# Altium footprint library SparkFun-DiscreteSemi.PCBLIB: 47 footprints (part 1 of 3)
Each footprint in its own frame and in the unit in brackets; x right, y up, seen from the top. Pads: shape width x height; smd on the part's side, far side on the other; paste and mask are expansions set on the pad; w line width, h text height; cw(c..) or ccw(c..) is an arc to the next point about the centre after c.
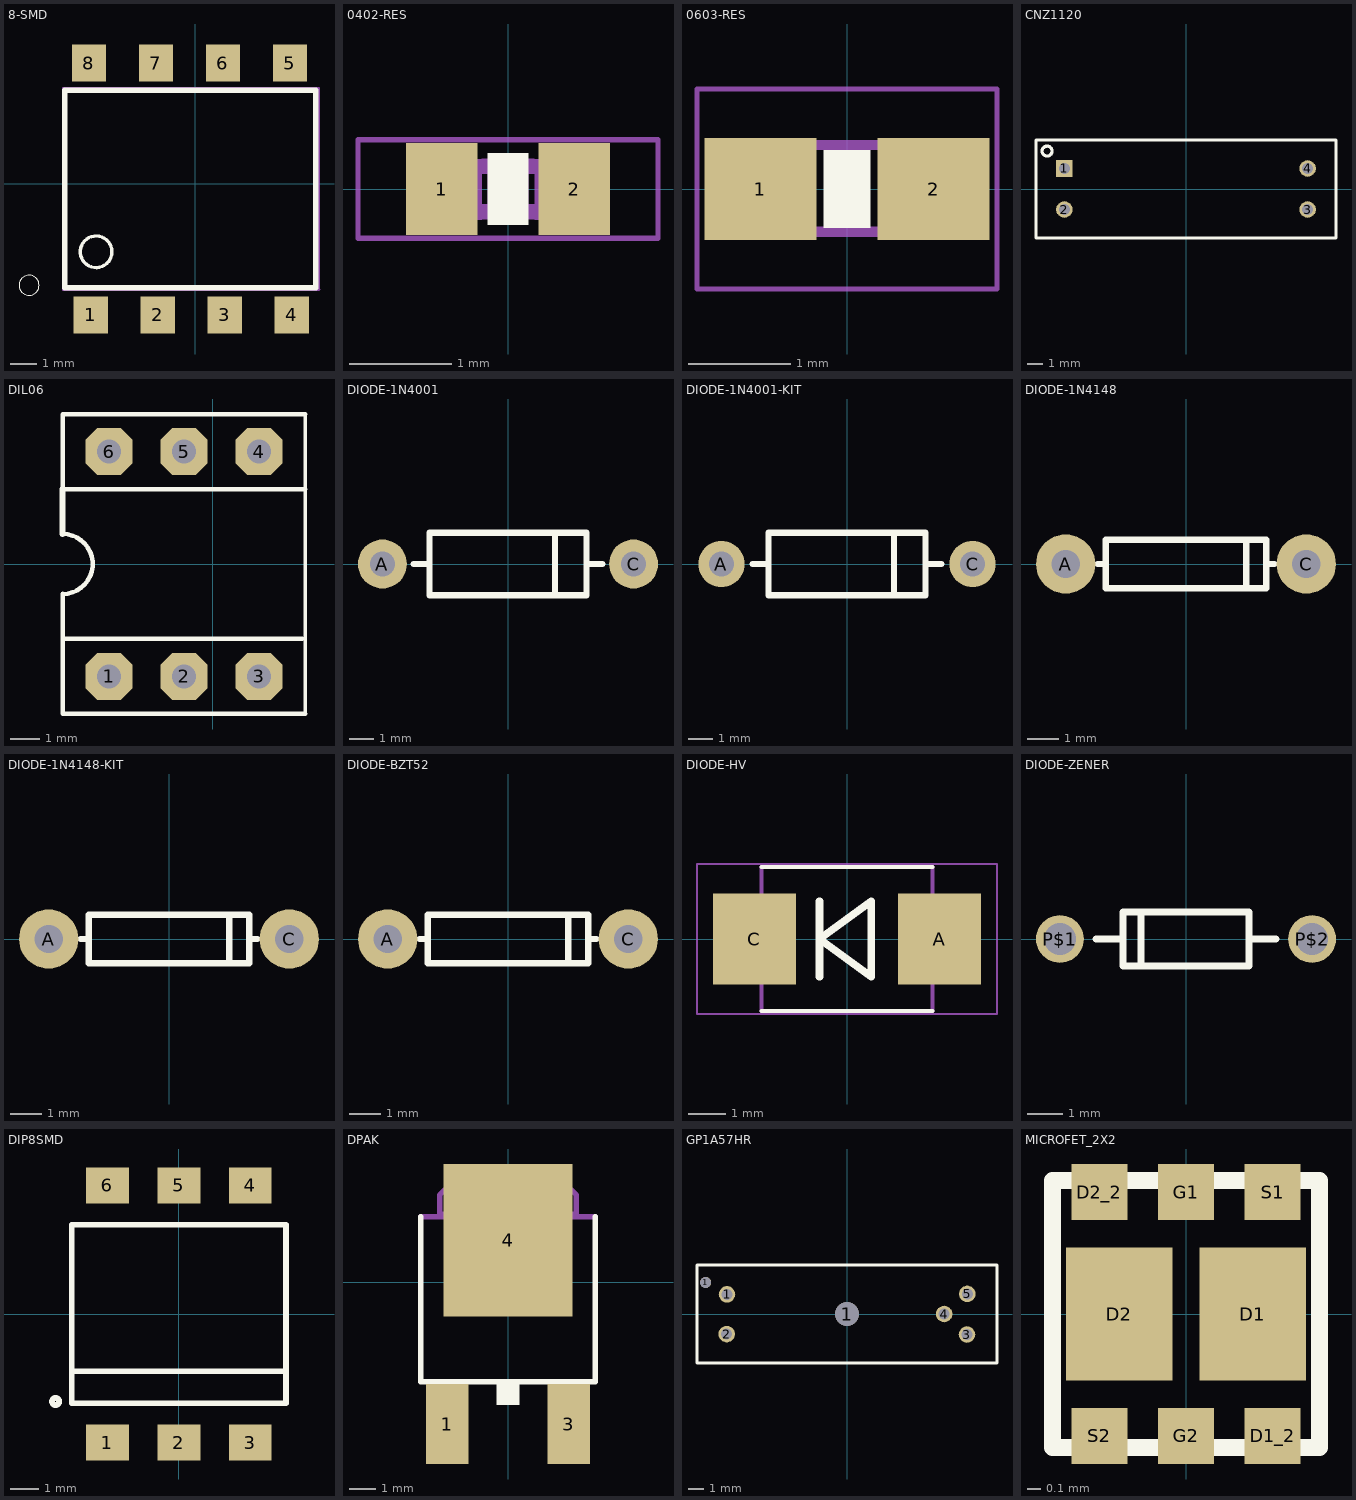
[diagram p0: the footprints below, top view; thin cyan lines are the x and y axes]

## 8-SMD [mil]
pads (8):
  rect 51.18x55.12 smd: 1(-155.91,-195.28) 2(-55.91,-195.28) 3(44.09,-195.28) 4(144.09,-195.28) 5(141.34,180.32) 6(41.34,180.32) 7(-58.66,180.32) 8(-158.66,180.32)
Top Overlay:
  circle w5: c-148.03,-101.18 r23.59
  circle w0: c-248.03,-151.18 r15
  lines w8: -195,-155 180,-155 180,140 -195,140 -195,-155
Mechanical 16:
  lines w3.94: 184.25,-156.69 184.25,142.52 -196.85,142.52 -196.85,-157.48 184.65,-157.48

## 0402-RES [mm]
pads (2):
  rect 0.7x0.9 smd: 1(-0.65,0) 2(0.65,0)
Top Overlay:
  rectangle: -0.203,-0.356 0.203,0.356
Mechanical 6:
  rectangle: -0.2,-0.3 0.2,0.3
Mechanical 16:
  rectangle: -0.554,-0.305 -0.254,0.295
  rectangle: 0.259,-0.305 0.559,0.295
  lines w0.152: -0.245,-0.224 0.245,-0.224 ; -0.245,0.224 0.245,0.224
Mechanical 27:
  lines w0.051: -1.473,-0.483 1.473,-0.483 1.473,0.483 -1.473,0.483 -1.473,-0.483

## 0603-RES [mm]
pads (2):
  rect 1.1x1 smd: 1(-0.85,0) 2(0.85,0)
Top Overlay:
  rectangle: -0.229,-0.381 0.229,0.381
Mechanical 6:
  rectangle: -0.2,-0.3 0.2,0.3
Mechanical 16:
  rectangle: -0.838,-0.47 -0.338,0.48
  rectangle: 0.33,-0.47 0.83,0.48
  lines w0.102: -0.356,-0.419 0.356,-0.419 ; -0.356,0.432 0.356,0.432
Mechanical 27:
  lines w0.051: -1.473,-0.983 1.473,-0.983 1.473,0.983 -1.473,0.983 -1.473,-0.983

## CNZ1120 [mm]
pads (4):
  rect 1.05x1.05 hole 0.7: 1(-7.7,1.3)
  round 1.05 hole 0.7: 2(-7.7,-1.3) 3(7.7,-1.3) 4(7.7,1.3)
Top Overlay:
  circle w0.203: c-8.8,2.4 r0.316
  lines w0.203: -9.5,-3.1 9.5,-3.1 9.5,3.1 -9.5,3.1 -9.5,-3.1

## DIL06 [mil]
pads (6):
  oct 63x63 hole 32: 1(-138.19,-150) 2(-38.19,-150) 3(61.81,-150) 4(61.81,150) 5(-38.19,150) 6(-138.19,150)
Top Overlay:
  lines w5: 123.62,-200 123.62,200
  lines w6: -200,40 cw(c-200,0) -200,-40 -200,-100 ; 119.69,-100 -200,-100 ; 123.62,-200 -200,-200 -200,-100 ; 123.62,100 -200,100 -200,200 123.62,200
  lines w8: -200,40 -200,100

## DIODE-1N4001 [mil]
pads (2):
  round 78 hole 39.37: A(-200,0) C(200,0)
Top Overlay:
  lines w10: -150,0 -125,0 ; 150,0 125,0 ; -125,0 -125,50 75,50 ; -125,0 -125,-50 75,-50 ; 75,-50 125,-50 125,0 ; 75,-50 75,50 ; 75,50 125,50 125,0

## DIODE-1N4001-KIT [mil]
pads (2):
  round 74 hole 40: A(-200,0) C(200,0)
Top Overlay:
  lines w10: -150,0 -125,0 ; 150,0 125,0 ; -125,0 -125,50 75,50 ; -125,0 -125,-50 75,-50 ; 75,-50 125,-50 125,0 ; 75,-50 75,50 ; 75,50 125,50 125,0
Top Solder:
  circle w0: c-200,0 r20
  circle w0: c200,0 r20
Bottom Solder:
  circle w0: c-200,0 r39
  circle w0: c200,0 r39

## DIODE-1N4148 [mil]
pads (2):
  round 74 hole 35.43: A(-150,0) C(150,0)
Top Overlay:
  lines w8: -110,0 -100,0 ; 75,-25 75,25 ; 110,0 100,0 ; -100,0 -100,-30 100,-30 100,0 ; -100,0 -100,30 100,30 100,0

## DIODE-1N4148-KIT [mil]
pads (2):
  round 74 hole 35.43: A(-150,0) C(150,0)
Top Overlay:
  lines w8: -110,0 -100,0 ; 75,-25 75,25 ; 110,0 100,0 ; -100,0 -100,-30 100,-30 100,0 ; -100,0 -100,30 100,30 100,0
Top Solder:
  circle w0: c-150,0 r18
  circle w0: c-150,0 r18
  circle w0: c150,0 r18
Bottom Solder:
  circle w0: c-150,0 r37
  circle w0: c150,0 r37

## DIODE-BZT52 [mil]
pads (2):
  round 74 hole 35.43: A(-150,0) C(150,0)
Top Overlay:
  lines w8: -110,0 -100,0 ; 75,-25 75,25 ; 110,0 100,0 ; -100,0 -100,-30 100,-30 100,0 ; -100,0 -100,30 100,30 100,0

## DIODE-HV [mil]
pads (2):
  rect 86.61x94.49 smd: A(96.61,0) C(-96.61,0)
Top Overlay:
  lines w4: -89,-75 89,-75 ; -89,75 89,75
  lines w8: -28.74,-39.37 -28.74,39.37 ; -28.74,0 25.32,39.37 25.32,-39.37 -28.74,0
Mechanical 16:
  rectangle: -110,-43 -89,43
  rectangle: 89,-43 110,43
  lines w4: -89.02,-75 -89.02,75 ; 89.02,-75 89.02,75
Mechanical 27:
  lines w2: -156.42,-78.07 156.42,-78.07 156.42,78.07 -156.42,78.07 -156.42,-78.07

## DIODE-ZENER [mil]
pads (2):
  round 53.15 hole 35.43: P$1(-140,0) P$2(140,0)
Top Overlay:
  lines w8: -100,0 -70,0 ; -50,-25 -50,25 ; 100,0 70,0 ; -70,0 -70,-30 70,-30 70,0 ; -70,0 -70,30 70,30 70,0

## DIP8SMD [mil]
pads (6):
  rect 60x50 smd: 1(-100,-180) 2(0,-180) 3(100,-180) 4(100,180) 5(0,180) 6(-100,180)
Top Overlay:
  circle w8: c-172.5,-122.5 r5
  lines w8: -150,-80 -150,-125 150,-125 150,-80 ; -150,-80 -150,125 150,125 150,-80 ; -150,-80 150,-80

## DPAK [mm]
pads (3):
  rect 1.6x3 smd: 1(-2.28,-5.31) 3(2.28,-5.31)
  rect 4.826x5.715 smd: 4(0,1.588)
Top Overlay:
  rectangle: -0.432,-4.593 0.432,-3.831
  lines w0.203: -3.277,2.465 -3.277,-3.729 3.277,-3.729 3.277,2.465
Mechanical 16:
  rectangle: -2.718,-6.726 -1.854,-3.831
  rectangle: 1.854,-6.726 2.718,-3.831
  region: 0,0 0.254,0 0.254,0.254 0,0.254
  lines w0.203: -3.277,2.465 3.277,2.465 ; -2.565,2.567 -2.565,3.278 -2.108,3.735 2.108,3.735 2.565,3.278 2.565,2.567 -2.565,2.567

## GP1A57HR [mm]
pads (7):
  round 0.7 hole 0.7: 1(-8.95,2)
  round 1.05 hole 0.7: 1(-7.6,1.24) 2(-7.62,-1.27) 3(7.6,-1.3) 4(6.15,0) 5(7.62,1.27)
  round 1.5 hole 1.5: 1(0,0)
Top Overlay:
  lines w0.203: -9.5,-3.1 9.5,-3.1 9.5,3.1 -9.5,3.1 -9.5,-3.1

## MICROFET_2X2 [mm]
pads (8):
  rect 0.8x1 smd: D1(0.5,0) D2(-0.5,0)
  rect 0.42x0.42 smd: D1_2(0.65,-0.915) D2_2(-0.65,0.915) G1(0,0.915) G2(0,-0.915) S1(0.65,0.915) S2(-0.65,-0.915)
Top Overlay:
  lines w0.127: -1,-1 1,-1 1,1 -1,1 -1,-1